# Altium schematic symbol library gms.SchLib: 12 symbols
Pins are listed as number, name and electrical type; pins without a type are passive.

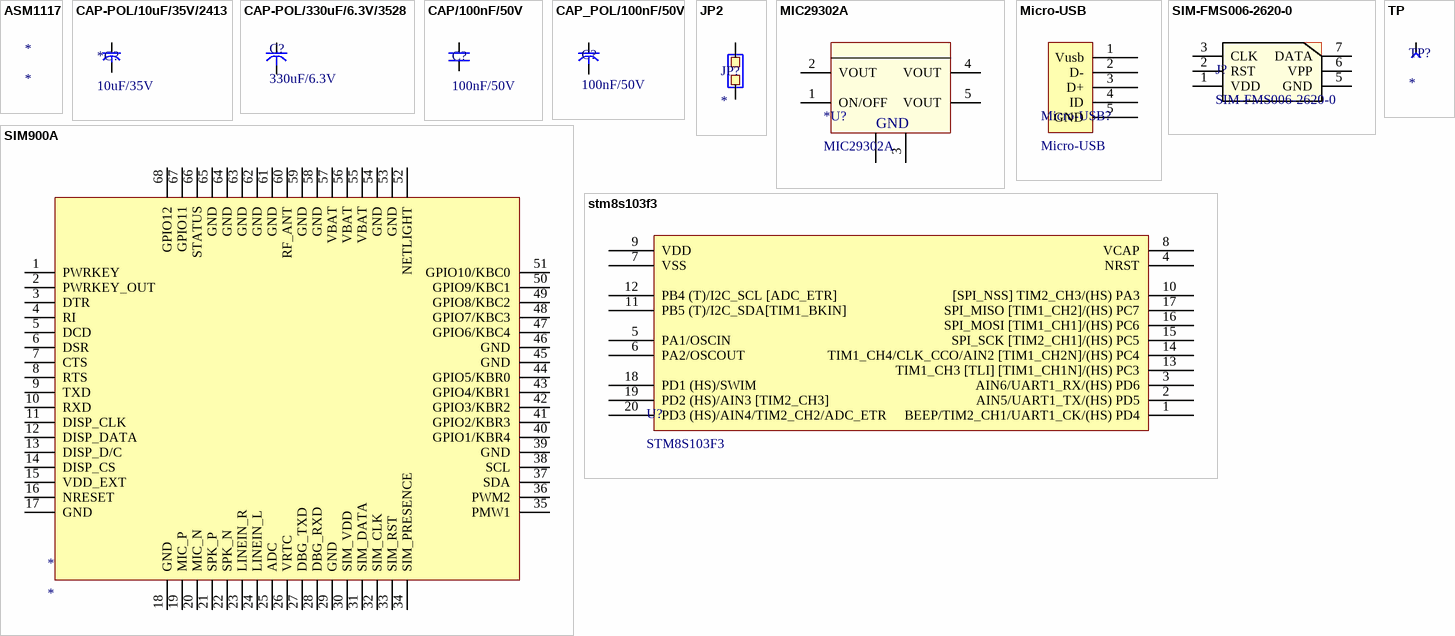
[diagram p0: symbols ASM1117 to TP]

## ASM1117
designator *

## CAP-POL/10uF/35V/2413
designator *C?, comment 10uF/35V
CAP TANT 10UF 35V 10% 2413
pins: 1, 2

## CAP-POL/330uF/6.3V/3528
designator C?, comment 330uF/6.3V
CAP TAN 330UF 20% 6V 3528-21
pins: 1, 2

## CAP/100nF/50V
designator C?, comment 100nF/50V
pins: 1, 2

## CAP_POL/100nF/50V
designator C?, comment 100nF/50V
pins: 1, 2

## JP2
designator JP?
Jumper 2.54mm
pins: 1, 2

## MIC29302A
designator *U?
pins: 1 ON/OFF, 2 VOUT, 3 GND, 4 VOUT, 5 VOUT, 6 TAB

## Micro-USB
designator Micro-USB?
pins: 1 Vusb, 2 D-, 3 D+, 4 ID, 5 GND

## SIM900A
designator *
pins: 1 PWRKEY , 2 PWRKEY_OUT , 3 DTR , 4 RI , 5 DCD , 6 DSR , 7 CTS , 8 RTS , 9 TXD , 10 RXD , 11 DISP_CLK , 12 DISP_DATA , 13 DISP_D/C , 14 DISP_CS , 15 VDD_EXT , 16 NRESET , 17 GND , 18 GND , 19 MIC_P , 20 MIC_N , 21 SPK_P , 22 SPK_N , 23 LINEIN_R , 24 LINEIN_L , 25 ADC , 26 VRTC , 27 DBG_TXD , 28 DBG_RXD , 29 GND , 30 SIM_VDD , 31 SIM_DATA , 32 SIM_CLK , 33 SIM_RST , 34 SIM_PRESENCE , 35 PMW1, 36 PWM2, 37 SDA, 38 SCL, 39 GND, 40 GPIO1/KBR4, 41 GPIO2/KBR3, 42 GPIO3/KBR2, 43 GPIO4/KBR1, 44 GPIO5/KBR0, 45 GND, 46 GND, 47 GPIO6/KBC4, 48 GPIO7/KBC3, 49 GPIO8/KBC2, 50 GPIO9/KBC1, 51 GPIO10/KBC0, 52 NETLIGHT, 53 GND, 54 GND, 55 VBAT, 56 VBAT, 57 VBAT, 58 GND, 59 GND, 60 RF_ANT, 61 GND, 62 GND, 63 GND, 64 GND, 65 GND, 66 STATUS, 67 GPIO11, 68 GPIO12

## SIM-FMS006-2620-0
designator J?
pins: 1 VDD, 2 RST, 3 CLK, 5 GND, 6 VPP, 7 DATA

## stm8s103f3
designator U?, comment STM8S103F3
pins: 1 BEEP/TIM2_CH1/UART1_CK/(HS) PD4, 2 AIN5/UART1_TX/(HS) PD5, 3 AIN6/UART1_RX/(HS) PD6, 4 NRST, 5 PA1/OSCIN, 6 PA2/OSCOUT, 7 VSS, 8 VCAP, 9 VDD, 10 [SPI_NSS] TIM2_CH3/(HS) PA3, 11 PB5 (T)/I2C_SDA[TIM1_BKIN], 12 PB4 (T)/I2C_SCL [ADC_ETR], 13 TIM1_CH3 [TLI] [TIM1_CH1N]/(HS) PC3, 14 TIM1_CH4/CLK_CCO/AIN2 [TIM1_CH2N]/(HS) PC4, 15 SPI_SCK [TIM2_CH1]/(HS) PC5, 16 SPI_MOSI [TIM1_CH1]/(HS) PC6, 17 SPI_MISO [TIM1_CH2]/(HS) PC7, 18 PD1 (HS)/SWIM, 19 PD2 (HS)/AIN3 [TIM2_CH3], 20 PD3 (HS)/AIN4/TIM2_CH2/ADC_ETR

## TP
designator TP?
Test point ( Via, pad )
pins: 1